# Altium schematic symbol library Sheet_1_2021-12-20.SCHLIB: 1 symbol
Pins are listed as number, name and electrical type; pins without a type are passive.

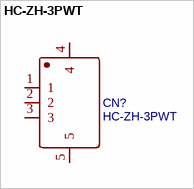
[diagram p0: symbol HC-ZH-3PWT]

## HC-ZH-3PWT
designator CN?
BOM_Manufacturer: HCTL(华灿天禄); Contributor: LCSC; BOM_Supplier: LCSC; BOM_Supplier Part: C2845425; BOM_Manufacturer Part: HC-ZH-3PWT; spicePre: C; spiceSymbolName: HC-ZH-3PWT
footprint CONN-SMD_HC-ZH-3PWT
pins: 1, 2, 3, 4, 5